# EAGLE library part NDS9936 (library okamoto)
Dual N-Channel Enhancement Mode Field Effect Transistor NDS9936 FAIRCHALD SEMICONDUCTOR
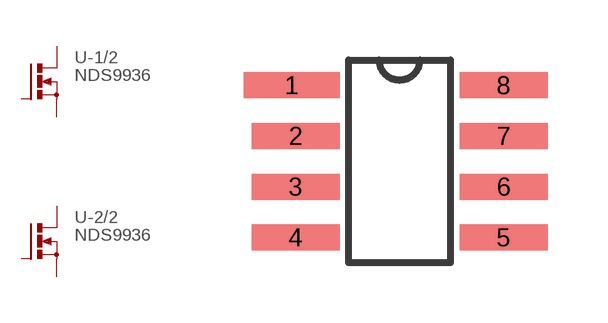
[diagram p20: symbol with the pads of SOIC-8; footprint SOIC-8]

Designator prefix U; gates -1/2=FET-MOS-NCH -2/2=FET-MOS-NCH

## NDS9936  [SOIC-8]
1  -1/2:S  pas
2  -1/2:G  pas
3  -2/2:S  pas
4  -2/2:G  pas
5  -2/2:D  pas
6  -2/2:D  pas
7  -1/2:D  pas
8  -1/2:D  pas

## Footprint SOIC-8 (pad centres in mm)
smd 2.4 x 0.65: 1 -2.7,1.905
smd 2.2 x 0.65: 2 -2.6,0.635; 3 -2.6,-0.635; 4 -2.6,-1.905; 5 2.6,-1.905; 6 2.6,-0.635; 7 2.6,0.635; 8 2.6,1.905